# Altium schematic symbol library MCU.SchLib: 2 symbols
Pins are listed as number, name and electrical type; pins without a type are passive.

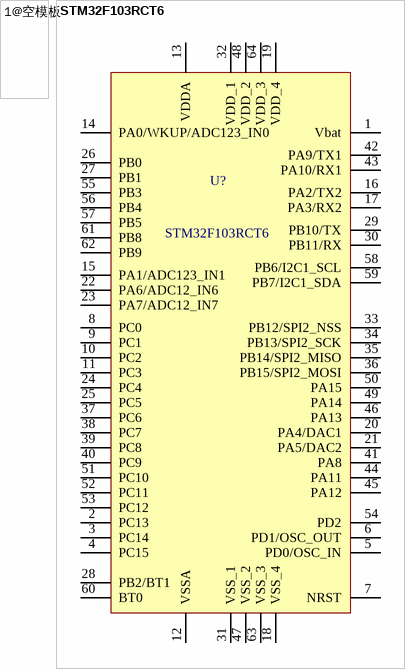
[diagram p0: symbols 1@空模板 to STM32F103RCT6]

## 1@空模板
designator ?  (value not drawn)
A.元件编号: *; B.元件名称: *; C.元件类型: *; D.元件型号: *; E.封装规格: *; F.阻值(Ω)/容值(μF): *; G.电压: *; H.精度: *; I.焊盘数量: *; J.品牌产地: *; 单价/元: *; 原创: *; 备注: *

## STM32F103RCT6
designator U?
微控制器，LQFP64，ST(意法半导体)，STM32F103RCT6; A.元件编号: C8323; 备注: 立创可贴片元器件; E.封装规格: LQFP-64; I.焊盘数量: 64; 单价/元（大批量）: 13.04; Value: *; B.元件名称: STM32F103RCT6; C.元件类别: ST(意法半导体); D.元件型号: STM32F103RCT6; F.阻值(Ω)/容值(uF): *; G.电压: *; H.精度: *; J.品牌产地: ST(意法半导体)
footprint LQFP64 10x10_N
pins: 1 Vbat, 2 PC13, 3 PC14, 4 PC15, 5 PD0/OSC_IN, 6 PD1/OSC_OUT, 7 NRST, 8 PC0, 9 PC1, 10 PC2, 11 PC3, 12 VSSA, 13 VDDA, 14 PA0/WKUP/ADC123_IN0, 15 PA1/ADC123_IN1, 16 PA2/TX2, 17 PA3/RX2, 18 VSS_4, 19 VDD_4, 20 PA4/DAC1, 21 PA5/DAC2, 22 PA6/ADC12_IN6, 23 PA7/ADC12_IN7, 24 PC4, 25 PC5, 26 PB0, 27 PB1, 28 PB2/BT1, 29 PB10/TX, 30 PB11/RX, 31 VSS_1, 32 VDD_1, 33 PB12/SPI2_NSS, 34 PB13/SPI2_SCK, 35 PB14/SPI2_MISO, 36 PB15/SPI2_MOSI, 37 PC6, 38 PC7, 39 PC8, 40 PC9, 41 PA8, 42 PA9/TX1, 43 PA10/RX1, 44 PA11, 45 PA12, 46 PA13, 47 VSS_2, 48 VDD_2, 49 PA14, 50 PA15, 51 PC10, 52 PC11, 53 PC12, 54 PD2, 55 PB3, 56 PB4, 57 PB5, 58 PB6/I2C1_SCL, 59 PB7/I2C1_SDA, 60 BT0, 61 PB8, 62 PB9, 63 VSS_3, 64 VDD_3